# Altium integrated library TI Data Converters Digital to Analog Converter.IntLib: 1533 symbols (part 31 of 99)
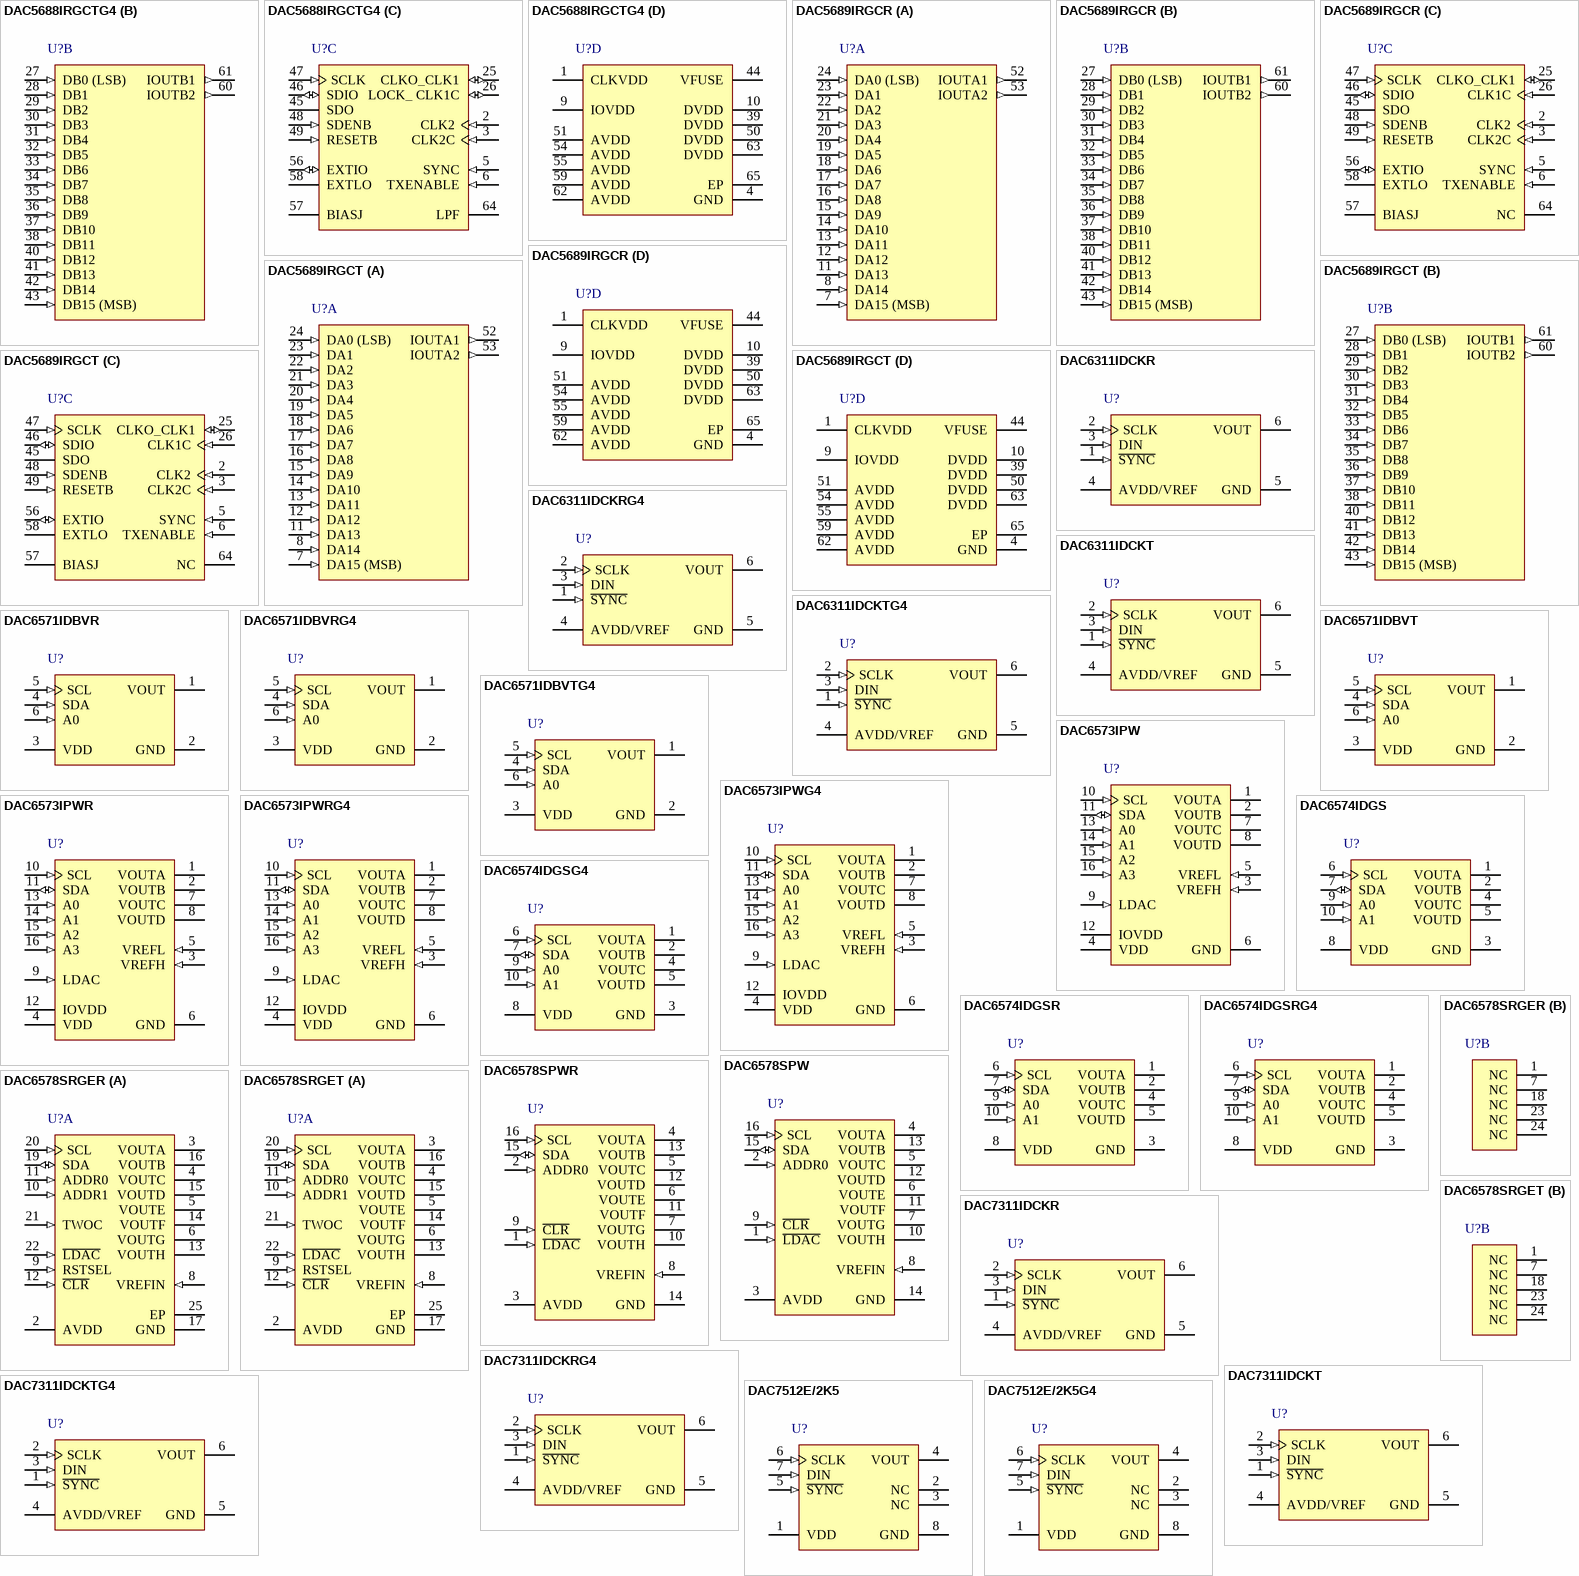
[diagram p103: symbols DAC5688IRGCTG4 to DAC7512E/2K5G4]

## DAC6578SRGER
designator U?
10-Bit, Octal Channel, Ultra-Low Glitch, Voltage Output, 2-Wire Interface DAC, -40 to 125 degC, 24-pin QFN (RGE24), Green (RoHS & no Sb/Br); Manufacturer: Texas Instruments; PartNumber: DAC6578SRGER; DAC Channels: 8; DNL(Max)(+/-LSB): 0.5; Interface: Serial I2C; Power Consumption(Typ)(mW): 3.67; Resolution(Bits): 10; Settling Time(us): 7; SubFamily: Precision DAC (=<10MSPS); DatasheetVersion: SBAS496A; PackageVersion: 4204104/G, 07/2011; PackageReference: RGE24-2700X2700TP; PackageDescription: 24-Pin Plastic Flat Pack, Body 4 x 4 mm, Pitch 0.5 mm; Supplier 1: Digi-Key; Supplier Part Number 1: DAC6578SRGER-ND; Supplier 2: Mouser; Supplier Part Number 2: 595-DAC6578SRGER; Eco-Plan: Green (RoHS & no Sb/Br); INL(Max)(+/-LSB): 0.5; Mounting Technology: Surface Mount; Code_JEDEC: MO-220; ComponentLink1Description: Manufacturer URL; ComponentLink1URL: http://www.ti.com/; ComponentLink2Description: Datasheet; ComponentLink2URL: http://www.ti.com/general/docs/lit/getliterature.tsp?genericPartNumber=DAC6578&fileType=pdf; ComponentLink3Description: Package Specification; ComponentLink3URL: http://www.ti.com/litv/pdf/mpqf124f
footprint TI-RGE24-2700X2700TP_V (QFN, 24-Leads, Body 4x4mm, Pitch 0.5mm, Thermal Pad 2.7x2.7mm)
part A pins: 2 AVDD (power) "Power-supply input, 2.7V to 5.5V", 3 VOUTA (hiz) "Analog output voltage from DAC A", 4 VOUTC (hiz) "Analog output voltage from DAC C", 5 VOUTE (hiz) "Analog output voltage from DAC E", 6 VOUTG (hiz) "Analog output voltage from DAC G", 8 VREFIN (in) "Positive reference input", 9 RSTSEL (in) "Reset select pin. RSTSEL high resets device to mid-scale; RSTSEL low resets device to zero-scale.", 10 ADDR1 (in) "3-state address input", 11 ADDR0 (in) "3-state address input", 12 ~{CLR} (in) "Asynchronous clear input", 13 VOUTH (hiz) "Analog output voltage from DAC H", 14 VOUTF (hiz) "Analog output voltage from DAC F", 15 VOUTD (hiz) "Analog output voltage from DAC D", 16 VOUTB (hiz) "Analog output voltage from DAC B", 17 GND (power) "Ground reference point for all circuitry on the device", 19 SDA (io) "Serial data input. Data are clocked into or out of the input register. This pin is a bidirectional, open-drain data line that should be connected to the supply voltage with an external pull-up resistor.", 20 SCL (in) "Serial clock input. Data can be transferred at rates up to 3.4MHz. Schmitt-trigger logic input.", 21 TWOC (in) "Twos complement select. If the TWOC pin is pulled high, the DAC registers use twos complement format; if TWOC is pulled low, the DAC registers use straight binary format.", 22 ~{LDAC} (in) "Load DACs", 25 EP (power) "It is recommended to connect the thermal pad to GND for better thermal dissipation."
part B pins: 1 NC "Not internally connected", 7 NC "Not internally connected", 18 NC "Not internally connected", 23 NC "Not internally connected", 24 NC "Not internally connected"

## DAC6578SRGET
designator U?
10-Bit, Octal Channel, Ultra-Low Glitch, Voltage Output, 2-Wire Interface DAC, -40 to 125 degC, 24-pin QFN (RGE24), Green (RoHS & no Sb/Br); Manufacturer: Texas Instruments; PartNumber: DAC6578SRGET; DAC Channels: 8; DNL(Max)(+/-LSB): 0.5; Interface: Serial I2C; Power Consumption(Typ)(mW): 3.67; Resolution(Bits): 10; Settling Time(us): 7; SubFamily: Precision DAC (=<10MSPS); DatasheetVersion: SBAS496A; PackageVersion: 4204104/G, 07/2011; PackageReference: RGE24-2700X2700TP; PackageDescription: 24-Pin Plastic Flat Pack, Body 4 x 4 mm, Pitch 0.5 mm; Supplier 1: Digi-Key; Supplier Part Number 1: 296-27739-2-ND; Supplier 2: Digi-Key; Supplier Part Number 2: 296-27739-1-ND; Supplier 3: Digi-Key; Supplier Part Number 3: 296-27739-6-ND; Supplier 4: Farnell; Supplier Part Number 4: 1862570; Supplier 5: Newark; Supplier Part Number 5: 91R2084; Supplier 6: Mouser; Supplier Part Number 6: 595-DAC6578SRGET; Eco-Plan: Green (RoHS & no Sb/Br); INL(Max)(+/-LSB): 0.5; Mounting Technology: Surface Mount; Code_JEDEC: MO-220; ComponentLink1Description: Manufacturer URL; ComponentLink1URL: http://www.ti.com/; ComponentLink2Description: Datasheet; ComponentLink2URL: http://www.ti.com/general/docs/lit/getliterature.tsp?genericPartNumber=DAC6578&fileType=pdf; ComponentLink3Description: Package Specification; ComponentLink3URL: http://www.ti.com/litv/pdf/mpqf124f
footprint TI-RGE24-2700X2700TP_V (QFN, 24-Leads, Body 4x4mm, Pitch 0.5mm, Thermal Pad 2.7x2.7mm)
part A pins: 2 AVDD (power) "Power-supply input, 2.7V to 5.5V", 3 VOUTA (hiz) "Analog output voltage from DAC A", 4 VOUTC (hiz) "Analog output voltage from DAC C", 5 VOUTE (hiz) "Analog output voltage from DAC E", 6 VOUTG (hiz) "Analog output voltage from DAC G", 8 VREFIN (in) "Positive reference input", 9 RSTSEL (in) "Reset select pin. RSTSEL high resets device to mid-scale; RSTSEL low resets device to zero-scale.", 10 ADDR1 (in) "3-state address input", 11 ADDR0 (in) "3-state address input", 12 ~{CLR} (in) "Asynchronous clear input", 13 VOUTH (hiz) "Analog output voltage from DAC H", 14 VOUTF (hiz) "Analog output voltage from DAC F", 15 VOUTD (hiz) "Analog output voltage from DAC D", 16 VOUTB (hiz) "Analog output voltage from DAC B", 17 GND (power) "Ground reference point for all circuitry on the device", 19 SDA (io) "Serial data input. Data are clocked into or out of the input register. This pin is a bidirectional, open-drain data line that should be connected to the supply voltage with an external pull-up resistor.", 20 SCL (in) "Serial clock input. Data can be transferred at rates up to 3.4MHz. Schmitt-trigger logic input.", 21 TWOC (in) "Twos complement select. If the TWOC pin is pulled high, the DAC registers use twos complement format; if TWOC is pulled low, the DAC registers use straight binary format.", 22 ~{LDAC} (in) "Load DACs", 25 EP (power) "It is recommended to connect the thermal pad to GND for better thermal dissipation."
part B pins: 1 NC "Not internally connected", 7 NC "Not internally connected", 18 NC "Not internally connected", 23 NC "Not internally connected", 24 NC "Not internally connected"

## DAC7311IDCKR
designator U?
12-Bit, Single Channel, 80 uA, 1.8 to 5.5 V DAC in SC70 Package, -40 to 125 degC, 6-pin SOT23 (DCK6), Green (RoHS & no Sb/Br); Manufacturer: Texas Instruments; PartNumber: DAC7311IDCKR; DAC Channels: 1; Interface: Serial SPI; Power Consumption(Typ)(mW): 0.14; Resolution(Bits): 12; Settling Time(us): 6; SFDR(dB): 65; SNR(dB): 81; SubFamily: Precision DAC (=<10MSPS); DatasheetVersion: SBAS442B; PackageVersion: 4093553-4/G, 01/2007; PackageReference: DCK6; PackageDescription: 6-Pin Plastic Small Outline, Body 2 x 1.25 mm, Pitch 0.65 mm; Supplier 1: Digi-Key; Supplier Part Number 1: 296-23717-2-ND; Supplier 2: Digi-Key; Supplier Part Number 2: 296-23717-1-ND; Supplier 3: Digi-Key; Supplier Part Number 3: 296-23717-6-ND; Supplier 4: Newark; Supplier Part Number 4: 08P4365; Supplier 5: Mouser; Supplier Part Number 5: 595-DAC7311IDCKR; DNL(Max)(+/-LSB): 1; Eco-Plan: Green (RoHS & no Sb/Br); INL(Max)(+/-LSB): 1; Mounting Technology: Surface Mount; Code_JEDEC: MO-203; ComponentLink1Description: Manufacturer URL; ComponentLink1URL: http://www.ti.com/; ComponentLink2Description: Datasheet; ComponentLink2URL: http://www.ti.com/general/docs/lit/getliterature.tsp?genericPartNumber=DAC7311&fileType=pdf; ComponentLink3Description: Package Specification; ComponentLink3URL: http://www.ti.com/litv/pdf/mpds114c
footprint TI-DCK6_V (SOT23, 6-Leads, Body 2x1.25mm, Pitch 0.65mm)
pins: 1 ~{SYNC} (in) "Level-triggered control input (active low). This is the frame sychronization signal for the input data. When S\Y\N\C\ goes low, it enables the input shift register and data are transferred in on the falling edges of the (See Datasheet)", 2 SCLK (in) "Serial Clock Input. Data can be transferred at rates up to 50MHz.", 3 DIN (in) "Serial Data Input. Data is clocked into the 24-bit (DAC8411) or 16-bit (DAC8311) input shift register on the falling edge of the serial clock input.", 4 AVDD/VREF (power) "Power Supply Input, +2.0V to 5.5V.", 5 GND (power) "Ground reference point for all circuitry on the part.", 6 VOUT (hiz) "Analog output voltage from DAC. The output amplifier has rail-to-rail operation."

## DAC7311IDCKRG4
designator U?
12-Bit, Single Channel, 80 uA, 1.8 to 5.5 V DAC in SC70 Package, -40 to 125 degC, 6-pin SOT23 (DCK6), Green (RoHS & no Sb/Br); Manufacturer: Texas Instruments; PartNumber: DAC7311IDCKRG4; DAC Channels: 1; Interface: Serial SPI; Power Consumption(Typ)(mW): 0.14; Resolution(Bits): 12; Settling Time(us): 6; SFDR(dB): 65; SNR(dB): 81; SubFamily: Precision DAC (=<10MSPS); DatasheetVersion: SBAS442B; PackageVersion: 4093553-4/G, 01/2007; PackageReference: DCK6; PackageDescription: 6-Pin Plastic Small Outline, Body 2 x 1.25 mm, Pitch 0.65 mm; Supplier 1: Digi-Key; Supplier Part Number 1: DAC7311IDCKRG4-ND; Supplier 2: Mouser; Supplier Part Number 2: 595-DAC7311IDCKRG4; DNL(Max)(+/-LSB): 1; Eco-Plan: Green (RoHS & no Sb/Br); INL(Max)(+/-LSB): 1; Mounting Technology: Surface Mount; Code_JEDEC: MO-203; ComponentLink1Description: Manufacturer URL; ComponentLink1URL: http://www.ti.com/; ComponentLink2Description: Datasheet; ComponentLink2URL: http://www.ti.com/general/docs/lit/getliterature.tsp?genericPartNumber=DAC7311&fileType=pdf; ComponentLink3Description: Package Specification; ComponentLink3URL: http://www.ti.com/litv/pdf/mpds114c
footprint TI-DCK6_V (SOT23, 6-Leads, Body 2x1.25mm, Pitch 0.65mm)
pins: 1 ~{SYNC} (in) "Level-triggered control input (active low). This is the frame sychronization signal for the input data. When S\Y\N\C\ goes low, it enables the input shift register and data are transferred in on the falling edges of the (See Datasheet)", 2 SCLK (in) "Serial Clock Input. Data can be transferred at rates up to 50MHz.", 3 DIN (in) "Serial Data Input. Data is clocked into the 24-bit (DAC8411) or 16-bit (DAC8311) input shift register on the falling edge of the serial clock input.", 4 AVDD/VREF (power) "Power Supply Input, +2.0V to 5.5V.", 5 GND (power) "Ground reference point for all circuitry on the part.", 6 VOUT (hiz) "Analog output voltage from DAC. The output amplifier has rail-to-rail operation."

## DAC7311IDCKT
designator U?
12-Bit, Single Channel, 80 uA, 1.8 to 5.5 V DAC in SC70 Package, -40 to 125 degC, 6-pin SOT23 (DCK6), Green (RoHS & no Sb/Br); Manufacturer: Texas Instruments; PartNumber: DAC7311IDCKT; DAC Channels: 1; Interface: Serial SPI; Power Consumption(Typ)(mW): 0.14; Resolution(Bits): 12; Settling Time(us): 6; SFDR(dB): 65; SNR(dB): 81; SubFamily: Precision DAC (=<10MSPS); DatasheetVersion: SBAS442B; PackageVersion: 4093553-4/G, 01/2007; PackageReference: DCK6; PackageDescription: 6-Pin Plastic Small Outline, Body 2 x 1.25 mm, Pitch 0.65 mm; Supplier 1: Digi-Key; Supplier Part Number 1: 296-26043-2-ND; Supplier 2: Digi-Key; Supplier Part Number 2: 296-26043-1-ND; Supplier 3: Digi-Key; Supplier Part Number 3: 296-26043-6-ND; Supplier 4: Newark; Supplier Part Number 4: 87W8957; Supplier 5: Newark; Supplier Part Number 5: 12P7426; Supplier 6: Mouser; Supplier Part Number 6: 595-DAC7311IDCKT; DNL(Max)(+/-LSB): 1; Eco-Plan: Green (RoHS & no Sb/Br); INL(Max)(+/-LSB): 1; Mounting Technology: Surface Mount; Code_JEDEC: MO-203; ComponentLink1Description: Manufacturer URL; ComponentLink1URL: http://www.ti.com/; ComponentLink2Description: Datasheet; ComponentLink2URL: http://www.ti.com/general/docs/lit/getliterature.tsp?genericPartNumber=DAC7311&fileType=pdf; ComponentLink3Description: Package Specification; ComponentLink3URL: http://www.ti.com/litv/pdf/mpds114c
footprint TI-DCK6_V (SOT23, 6-Leads, Body 2x1.25mm, Pitch 0.65mm)
pins: 1 ~{SYNC} (in) "Level-triggered control input (active low). This is the frame sychronization signal for the input data. When S\Y\N\C\ goes low, it enables the input shift register and data are transferred in on the falling edges of the (See Datasheet)", 2 SCLK (in) "Serial Clock Input. Data can be transferred at rates up to 50MHz.", 3 DIN (in) "Serial Data Input. Data is clocked into the 24-bit (DAC8411) or 16-bit (DAC8311) input shift register on the falling edge of the serial clock input.", 4 AVDD/VREF (power) "Power Supply Input, +2.0V to 5.5V.", 5 GND (power) "Ground reference point for all circuitry on the part.", 6 VOUT (hiz) "Analog output voltage from DAC. The output amplifier has rail-to-rail operation."

## DAC7311IDCKTG4
designator U?
12-Bit, Single Channel, 80 uA, 1.8 to 5.5 V DAC in SC70 Package, -40 to 125 degC, 6-pin SOT23 (DCK6), Green (RoHS & no Sb/Br); Manufacturer: Texas Instruments; PartNumber: DAC7311IDCKTG4; DAC Channels: 1; Interface: Serial SPI; Power Consumption(Typ)(mW): 0.14; Resolution(Bits): 12; Settling Time(us): 6; SFDR(dB): 65; SNR(dB): 81; SubFamily: Precision DAC (=<10MSPS); DatasheetVersion: SBAS442B; PackageVersion: 4093553-4/G, 01/2007; PackageReference: DCK6; PackageDescription: 6-Pin Plastic Small Outline, Body 2 x 1.25 mm, Pitch 0.65 mm; Supplier 1: Digi-Key; Supplier Part Number 1: DAC7311IDCKTG4-ND; Supplier 2: Mouser; Supplier Part Number 2: 595-DAC7311IDCKTG4; DNL(Max)(+/-LSB): 1; Eco-Plan: Green (RoHS & no Sb/Br); INL(Max)(+/-LSB): 1; Mounting Technology: Surface Mount; Code_JEDEC: MO-203; ComponentLink1Description: Manufacturer URL; ComponentLink1URL: http://www.ti.com/; ComponentLink2Description: Datasheet; ComponentLink2URL: http://www.ti.com/general/docs/lit/getliterature.tsp?genericPartNumber=DAC7311&fileType=pdf; ComponentLink3Description: Package Specification; ComponentLink3URL: http://www.ti.com/litv/pdf/mpds114c
footprint TI-DCK6_V (SOT23, 6-Leads, Body 2x1.25mm, Pitch 0.65mm)
pins: 1 ~{SYNC} (in) "Level-triggered control input (active low). This is the frame sychronization signal for the input data. When S\Y\N\C\ goes low, it enables the input shift register and data are transferred in on the falling edges of the (See Datasheet)", 2 SCLK (in) "Serial Clock Input. Data can be transferred at rates up to 50MHz.", 3 DIN (in) "Serial Data Input. Data is clocked into the 24-bit (DAC8411) or 16-bit (DAC8311) input shift register on the falling edge of the serial clock input.", 4 AVDD/VREF (power) "Power Supply Input, +2.0V to 5.5V.", 5 GND (power) "Ground reference point for all circuitry on the part.", 6 VOUT (hiz) "Analog output voltage from DAC. The output amplifier has rail-to-rail operation."

## DAC7512E/2K5
designator U?
Low-Power Rail-to-Rail Output 12-Bit Serial Input DAC, -40 to 105 degC, 8-pin SOP (DGK8), Green (RoHS & no Sb/Br); Manufacturer: Texas Instruments; PartNumber: DAC7512E/2K5; DAC Channels: 1; Interface: Serial SPI; Resolution(Bits): 12; Settling Time(us): 10; SubFamily: Precision DAC (=<10MSPS); DatasheetVersion: SBAS156B; PackageVersion: 4073329/E, 05/2006; PackageReference: DGK8; PackageDescription: 8-Pin Thin Small Outline, Body 3 x 3 mm, Pitch 0.65 mm; Supplier 1: Digi-Key; Supplier Part Number 1: DAC7512E/2K5-ND; Supplier 2: Mouser; Supplier Part Number 2: 595-DAC7512E/2K5; DNL(Max)(+/-LSB): 1; Eco-Plan: Green (RoHS & no Sb/Br); Mounting Technology: Surface Mount; Code_JEDEC: MO-187; ComponentLink1Description: Manufacturer URL; ComponentLink1URL: http://www.ti.com/; ComponentLink2Description: Datasheet; ComponentLink2URL: http://www.ti.com/general/docs/lit/getliterature.tsp?genericPartNumber=DAC7512&fileType=pdf; ComponentLink3Description: Package Specification; ComponentLink3URL: http://www.ti.com/litv/pdf/mpds028d
footprint TI-DGK8_N (SOP, 8-Leads, Body 3x3mm, Pitch 0.65mm, IPC Medium Density)
footprint TI-DGK8_L (SOP, 8-Leads, Body 3x3mm, Pitch 0.65mm, IPC High Density)
footprint TI-DGK8_M (SOP, 8-Leads, Body 3x3mm, Pitch 0.65mm, IPC Low Density)
pins: 1 VDD (power) "Power Supply Input, +2.7V to 5.5V.", 2 NC, 3 NC, 4 VOUT (hiz) "Analog output voltage from DAC. The output amplifier has rail-to-rail operation.", 5 ~{SYNC} (in) "Level triggered control input (active LOW). This is the frame sychronization signal for the input data. When S\Y\N\C\ goes LOW, it enables the input shift register and data is transferred in on the falling edges of the (See Datasheet)", 6 SCLK (in) "Serial Clock Input. Data can be transferred at rates up to 30MHz.", 7 DIN (in) "Serial Data Input. Data is clocked into the 16-bit input shift register on the falling edge of the serial clock input", 8 GND (power) "Ground reference point for all circuitry on the part"

## DAC7512E/2K5G4
designator U?
Low-Power Rail-to-Rail Output 12-Bit Serial Input DAC, -40 to 105 degC, 8-pin SOP (DGK8), Green (RoHS & no Sb/Br); Manufacturer: Texas Instruments; PartNumber: DAC7512E/2K5G4; DAC Channels: 1; Interface: Serial SPI; Resolution(Bits): 12; Settling Time(us): 10; SubFamily: Precision DAC (=<10MSPS); DatasheetVersion: SBAS156B; PackageVersion: 4073329/E, 05/2006; PackageReference: DGK8; PackageDescription: 8-Pin Thin Small Outline, Body 3 x 3 mm, Pitch 0.65 mm; Supplier 1: Digi-Key; Supplier Part Number 1: DAC7512E/2K5G4-ND; Supplier 2: Mouser; Supplier Part Number 2: 595-DAC7512E/2K5G4; DNL(Max)(+/-LSB): 1; Eco-Plan: Green (RoHS & no Sb/Br); Mounting Technology: Surface Mount; Code_JEDEC: MO-187; ComponentLink1Description: Manufacturer URL; ComponentLink1URL: http://www.ti.com/; ComponentLink2Description: Datasheet; ComponentLink2URL: http://www.ti.com/general/docs/lit/getliterature.tsp?genericPartNumber=DAC7512&fileType=pdf; ComponentLink3Description: Package Specification; ComponentLink3URL: http://www.ti.com/litv/pdf/mpds028d
footprint TI-DGK8_N (SOP, 8-Leads, Body 3x3mm, Pitch 0.65mm, IPC Medium Density)
footprint TI-DGK8_L (SOP, 8-Leads, Body 3x3mm, Pitch 0.65mm, IPC High Density)
footprint TI-DGK8_M (SOP, 8-Leads, Body 3x3mm, Pitch 0.65mm, IPC Low Density)
pins: 1 VDD (power) "Power Supply Input, +2.7V to 5.5V.", 2 NC, 3 NC, 4 VOUT (hiz) "Analog output voltage from DAC. The output amplifier has rail-to-rail operation.", 5 ~{SYNC} (in) "Level triggered control input (active LOW). This is the frame sychronization signal for the input data. When S\Y\N\C\ goes LOW, it enables the input shift register and data is transferred in on the falling edges of the (See Datasheet)", 6 SCLK (in) "Serial Clock Input. Data can be transferred at rates up to 30MHz.", 7 DIN (in) "Serial Data Input. Data is clocked into the 16-bit input shift register on the falling edge of the serial clock input", 8 GND (power) "Ground reference point for all circuitry on the part"

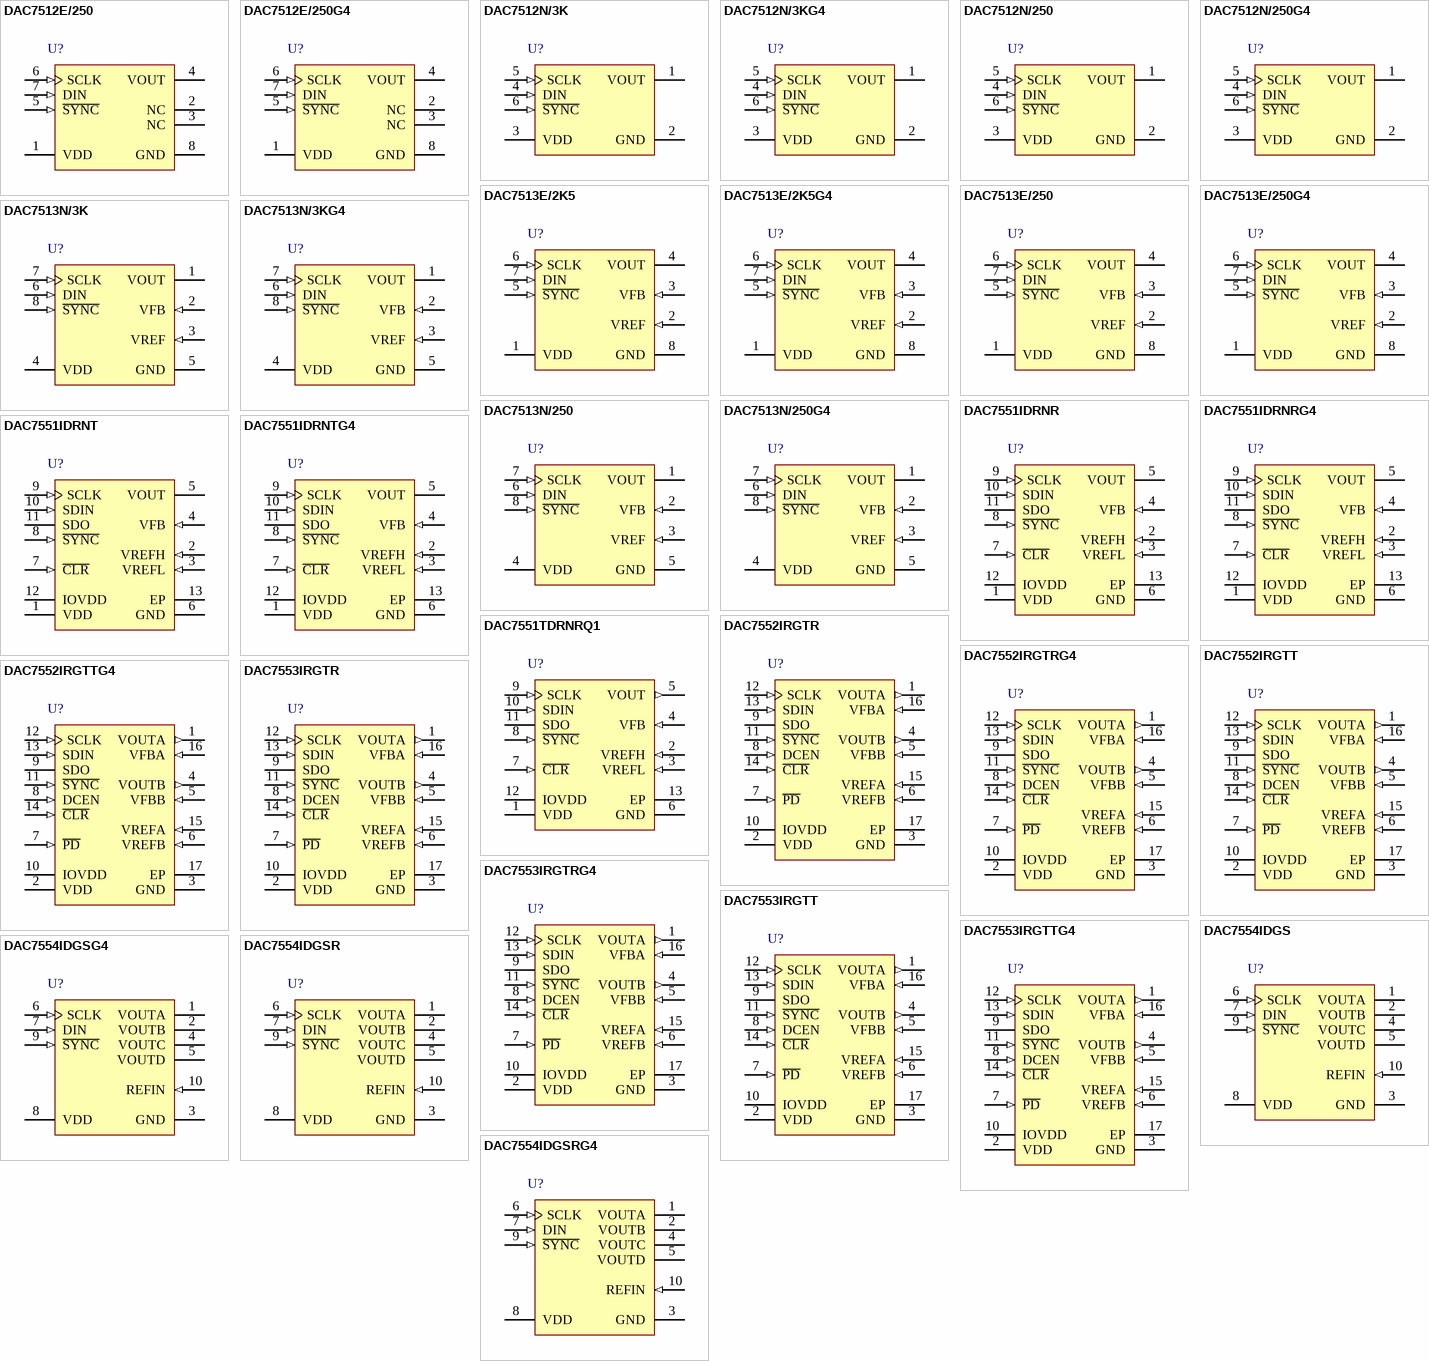
[diagram p23: symbols DAC7512E/250 to DAC7554IDGSRG4]

## DAC7512E/250
designator U?
Low-Power Rail-to-Rail Output 12-Bit Serial Input DAC, -40 to 105 degC, 8-pin SOP (DGK8), Green (RoHS & no Sb/Br); Manufacturer: Texas Instruments; PartNumber: DAC7512E/250; DAC Channels: 1; Interface: Serial SPI; Resolution(Bits): 12; Settling Time(us): 10; SubFamily: Precision DAC (=<10MSPS); DatasheetVersion: SBAS156B; PackageVersion: 4073329/E, 05/2006; PackageReference: DGK8; PackageDescription: 8-Pin Thin Small Outline, Body 3 x 3 mm, Pitch 0.65 mm; Supplier 1: Digi-Key; Supplier Part Number 1: DAC7512ETR-ND; Supplier 2: Digi-Key; Supplier Part Number 2: DAC7512ECT-ND; Supplier 3: Digi-Key; Supplier Part Number 3: DAC7512EDKR-ND; Supplier 4: Newark; Supplier Part Number 4: 74C9151; Supplier 5: Mouser; Supplier Part Number 5: 595-DAC7512E/250; DNL(Max)(+/-LSB): 1; Eco-Plan: Green (RoHS & no Sb/Br); Mounting Technology: Surface Mount; Code_JEDEC: MO-187; ComponentLink1Description: Manufacturer URL; ComponentLink1URL: http://www.ti.com/; ComponentLink2Description: Datasheet; ComponentLink2URL: http://www.ti.com/general/docs/lit/getliterature.tsp?genericPartNumber=DAC7512&fileType=pdf; ComponentLink3Description: Package Specification; ComponentLink3URL: http://www.ti.com/litv/pdf/mpds028d
footprint TI-DGK8_N (SOP, 8-Leads, Body 3x3mm, Pitch 0.65mm, IPC Medium Density)
footprint TI-DGK8_L (SOP, 8-Leads, Body 3x3mm, Pitch 0.65mm, IPC High Density)
footprint TI-DGK8_M (SOP, 8-Leads, Body 3x3mm, Pitch 0.65mm, IPC Low Density)
pins: 1 VDD (power) "Power Supply Input, +2.7V to 5.5V.", 2 NC, 3 NC, 4 VOUT (hiz) "Analog output voltage from DAC. The output amplifier has rail-to-rail operation.", 5 ~{SYNC} (in) "Level triggered control input (active LOW). This is the frame sychronization signal for the input data. When S\Y\N\C\ goes LOW, it enables the input shift register and data is transferred in on the falling edges of the (See Datasheet)", 6 SCLK (in) "Serial Clock Input. Data can be transferred at rates up to 30MHz.", 7 DIN (in) "Serial Data Input. Data is clocked into the 16-bit input shift register on the falling edge of the serial clock input", 8 GND (power) "Ground reference point for all circuitry on the part"

## DAC7512E/250G4
designator U?
Low-Power Rail-to-Rail Output 12-Bit Serial Input DAC, -40 to 105 degC, 8-pin SOP (DGK8), Green (RoHS & no Sb/Br); Manufacturer: Texas Instruments; PartNumber: DAC7512E/250G4; DAC Channels: 1; Interface: Serial SPI; Resolution(Bits): 12; Settling Time(us): 10; SubFamily: Precision DAC (=<10MSPS); DatasheetVersion: SBAS156B; PackageVersion: 4073329/E, 05/2006; PackageReference: DGK8; PackageDescription: 8-Pin Thin Small Outline, Body 3 x 3 mm, Pitch 0.65 mm; Supplier 1: Digi-Key; Supplier Part Number 1: DAC7512E/250G4-ND; Supplier 2: Farnell; Supplier Part Number 2: 1206852; Supplier 3: Newark; Supplier Part Number 3: 96K8416; Supplier 4: Newark; Supplier Part Number 4: 73K7713; Supplier 5: Mouser; Supplier Part Number 5: 595-DAC7512E/250G4; DNL(Max)(+/-LSB): 1; Eco-Plan: Green (RoHS & no Sb/Br); Mounting Technology: Surface Mount; Code_JEDEC: MO-187; ComponentLink1Description: Manufacturer URL; ComponentLink1URL: http://www.ti.com/; ComponentLink2Description: Datasheet; ComponentLink2URL: http://www.ti.com/general/docs/lit/getliterature.tsp?genericPartNumber=DAC7512&fileType=pdf; ComponentLink3Description: Package Specification; ComponentLink3URL: http://www.ti.com/litv/pdf/mpds028d
footprint TI-DGK8_N (SOP, 8-Leads, Body 3x3mm, Pitch 0.65mm, IPC Medium Density)
footprint TI-DGK8_L (SOP, 8-Leads, Body 3x3mm, Pitch 0.65mm, IPC High Density)
footprint TI-DGK8_M (SOP, 8-Leads, Body 3x3mm, Pitch 0.65mm, IPC Low Density)
pins: 1 VDD (power) "Power Supply Input, +2.7V to 5.5V.", 2 NC, 3 NC, 4 VOUT (hiz) "Analog output voltage from DAC. The output amplifier has rail-to-rail operation.", 5 ~{SYNC} (in) "Level triggered control input (active LOW). This is the frame sychronization signal for the input data. When S\Y\N\C\ goes LOW, it enables the input shift register and data is transferred in on the falling edges of the (See Datasheet)", 6 SCLK (in) "Serial Clock Input. Data can be transferred at rates up to 30MHz.", 7 DIN (in) "Serial Data Input. Data is clocked into the 16-bit input shift register on the falling edge of the serial clock input", 8 GND (power) "Ground reference point for all circuitry on the part"

## DAC7512N/3K
designator U?
Low-Power Rail-to-Rail Output 12-Bit Serial Input DAC, -40 to 105 degC, 6-pin SOT23 (DBV6), Green (RoHS & no Sb/Br); Manufacturer: Texas Instruments; PartNumber: DAC7512N/3K; DAC Channels: 1; Interface: Serial SPI; Resolution(Bits): 12; Settling Time(us): 10; SubFamily: Precision DAC (=<10MSPS); DatasheetVersion: SBAS156B; PackageVersion: 4073253-5/K, 03/2006; PackageReference: DBV6; PackageDescription: 6-Pin Plastic Small Outline, Body 1.6 x 2.9 mm, Pitch 0.95 mm; Supplier 1: Digi-Key; Supplier Part Number 1: 296-26044-2-ND; Supplier 2: Digi-Key; Supplier Part Number 2: 296-26044-1-ND; Supplier 3: Digi-Key; Supplier Part Number 3: 296-26044-6-ND; Supplier 4: Newark; Supplier Part Number 4: 74C9153; Supplier 5: Mouser; Supplier Part Number 5: 595-DAC7512N/3K; DNL(Max)(+/-LSB): 1; Eco-Plan: Green (RoHS & no Sb/Br); Mounting Technology: Surface Mount; Code_JEDEC: MO-178; ComponentLink1Description: Manufacturer URL; ComponentLink1URL: http://www.ti.com/; ComponentLink2Description: Datasheet; ComponentLink2URL: http://www.ti.com/general/docs/lit/getliterature.tsp?genericPartNumber=DAC7512&fileType=pdf; ComponentLink3Description: Package Specification; ComponentLink3URL: http://www.ti.com/litv/pdf/mpds026h
footprint TI-DBV6_N (SOT23, 6-Leads, Body 2.9x1.6mm, Pitch 0.95mm, IPC Medium Density)
footprint TI-DBV6_L (SOT23, 6-Leads, Body 2.9x1.6mm, Pitch 0.95mm, IPC High Density)
footprint TI-DBV6_M (SOT23, 6-Leads, Body 2.9x1.6mm, Pitch 0.95mm, IPC Low Density)
pins: 1 VOUT (hiz) "Analog output voltage from DAC. The output amplifier has rail-to-rail operation.", 2 GND (power) "Ground reference point for all circuitry on the part", 3 VDD (power) "Power Supply Input, +2.7V to 5.5V.", 4 DIN (in) "Serial Data Input. Data is clocked into the 16-bit input shift register on the falling edge of the serial clock input", 5 SCLK (in) "Serial Clock Input. Data can be transferred at rates up to 30MHz.", 6 ~{SYNC} (in) "Level triggered control input (active LOW). This is the frame sychronization signal for the input data. When S\Y\N\C\ goes LOW, it enables the input shift register and data is transferred in on the falling edges of the (See Datasheet)"

## DAC7512N/3KG4
designator U?
Low-Power Rail-to-Rail Output 12-Bit Serial Input DAC, -40 to 105 degC, 6-pin SOT23 (DBV6), Green (RoHS & no Sb/Br); Manufacturer: Texas Instruments; PartNumber: DAC7512N/3KG4; DAC Channels: 1; Interface: Serial SPI; Resolution(Bits): 12; Settling Time(us): 10; SubFamily: Precision DAC (=<10MSPS); DatasheetVersion: SBAS156B; PackageVersion: 4073253-5/K, 03/2006; PackageReference: DBV6; PackageDescription: 6-Pin Plastic Small Outline, Body 1.6 x 2.9 mm, Pitch 0.95 mm; Supplier 1: Digi-Key; Supplier Part Number 1: DAC7512N/3KG4-ND; Supplier 2: Newark; Supplier Part Number 2: 03K9067; Supplier 3: Mouser; Supplier Part Number 3: 595-DAC7512N/3KG4; DNL(Max)(+/-LSB): 1; Eco-Plan: Green (RoHS & no Sb/Br); Mounting Technology: Surface Mount; Code_JEDEC: MO-178; ComponentLink1Description: Manufacturer URL; ComponentLink1URL: http://www.ti.com/; ComponentLink2Description: Datasheet; ComponentLink2URL: http://www.ti.com/general/docs/lit/getliterature.tsp?genericPartNumber=DAC7512&fileType=pdf; ComponentLink3Description: Package Specification; ComponentLink3URL: http://www.ti.com/litv/pdf/mpds026h
footprint TI-DBV6_N (SOT23, 6-Leads, Body 2.9x1.6mm, Pitch 0.95mm, IPC Medium Density)
footprint TI-DBV6_L (SOT23, 6-Leads, Body 2.9x1.6mm, Pitch 0.95mm, IPC High Density)
footprint TI-DBV6_M (SOT23, 6-Leads, Body 2.9x1.6mm, Pitch 0.95mm, IPC Low Density)
pins: 1 VOUT (hiz) "Analog output voltage from DAC. The output amplifier has rail-to-rail operation.", 2 GND (power) "Ground reference point for all circuitry on the part", 3 VDD (power) "Power Supply Input, +2.7V to 5.5V.", 4 DIN (in) "Serial Data Input. Data is clocked into the 16-bit input shift register on the falling edge of the serial clock input", 5 SCLK (in) "Serial Clock Input. Data can be transferred at rates up to 30MHz.", 6 ~{SYNC} (in) "Level triggered control input (active LOW). This is the frame sychronization signal for the input data. When S\Y\N\C\ goes LOW, it enables the input shift register and data is transferred in on the falling edges of the (See Datasheet)"

## DAC7512N/250
designator U?
Low-Power Rail-to-Rail Output 12-Bit Serial Input DAC, -40 to 105 degC, 6-pin SOT23 (DBV6), Green (RoHS & no Sb/Br); Manufacturer: Texas Instruments; PartNumber: DAC7512N/250; DAC Channels: 1; Interface: Serial SPI; Resolution(Bits): 12; Settling Time(us): 10; SubFamily: Precision DAC (=<10MSPS); DatasheetVersion: SBAS156B; PackageVersion: 4073253-5/K, 03/2006; PackageReference: DBV6; PackageDescription: 6-Pin Plastic Small Outline, Body 1.6 x 2.9 mm, Pitch 0.95 mm; Supplier 1: Digi-Key; Supplier Part Number 1: DAC7512NTR-ND; Supplier 2: Digi-Key; Supplier Part Number 2: DAC7512NCT-ND; Supplier 3: Digi-Key; Supplier Part Number 3: DAC7512NDKR-ND; Supplier 4: Farnell; Supplier Part Number 4: 9547436; Supplier 5: Newark; Supplier Part Number 5: 74C9152; Supplier 6: Mouser; Supplier Part Number 6: 595-DAC7512N/250; DNL(Max)(+/-LSB): 1; Eco-Plan: Green (RoHS & no Sb/Br); Mounting Technology: Surface Mount; Code_JEDEC: MO-178; ComponentLink1Description: Manufacturer URL; ComponentLink1URL: http://www.ti.com/; ComponentLink2Description: Datasheet; ComponentLink2URL: http://www.ti.com/general/docs/lit/getliterature.tsp?genericPartNumber=DAC7512&fileType=pdf; ComponentLink3Description: Package Specification; ComponentLink3URL: http://www.ti.com/litv/pdf/mpds026h
footprint TI-DBV6_N (SOT23, 6-Leads, Body 2.9x1.6mm, Pitch 0.95mm, IPC Medium Density)
footprint TI-DBV6_L (SOT23, 6-Leads, Body 2.9x1.6mm, Pitch 0.95mm, IPC High Density)
footprint TI-DBV6_M (SOT23, 6-Leads, Body 2.9x1.6mm, Pitch 0.95mm, IPC Low Density)
pins: 1 VOUT (hiz) "Analog output voltage from DAC. The output amplifier has rail-to-rail operation.", 2 GND (power) "Ground reference point for all circuitry on the part", 3 VDD (power) "Power Supply Input, +2.7V to 5.5V.", 4 DIN (in) "Serial Data Input. Data is clocked into the 16-bit input shift register on the falling edge of the serial clock input", 5 SCLK (in) "Serial Clock Input. Data can be transferred at rates up to 30MHz.", 6 ~{SYNC} (in) "Level triggered control input (active LOW). This is the frame sychronization signal for the input data. When S\Y\N\C\ goes LOW, it enables the input shift register and data is transferred in on the falling edges of the (See Datasheet)"

## DAC7512N/250G4
designator U?
Low-Power Rail-to-Rail Output 12-Bit Serial Input DAC, -40 to 105 degC, 6-pin SOT23 (DBV6), Green (RoHS & no Sb/Br); Manufacturer: Texas Instruments; PartNumber: DAC7512N/250G4; DAC Channels: 1; Interface: Serial SPI; Resolution(Bits): 12; Settling Time(us): 10; SubFamily: Precision DAC (=<10MSPS); DatasheetVersion: SBAS156B; PackageVersion: 4073253-5/K, 03/2006; PackageReference: DBV6; PackageDescription: 6-Pin Plastic Small Outline, Body 1.6 x 2.9 mm, Pitch 0.95 mm; Supplier 1: Digi-Key; Supplier Part Number 1: DAC7512N/250G4-ND; Supplier 2: Farnell; Supplier Part Number 2: 9324151; Supplier 3: Newark; Supplier Part Number 3: 38K0740; Supplier 4: Newark; Supplier Part Number 4: 24K4539; Supplier 5: Mouser; Supplier Part Number 5: 595-DAC7512N/250G4; DNL(Max)(+/-LSB): 1; Eco-Plan: Green (RoHS & no Sb/Br); Mounting Technology: Surface Mount; Code_JEDEC: MO-178; ComponentLink1Description: Manufacturer URL; ComponentLink1URL: http://www.ti.com/; ComponentLink2Description: Datasheet; ComponentLink2URL: http://www.ti.com/general/docs/lit/getliterature.tsp?genericPartNumber=DAC7512&fileType=pdf; ComponentLink3Description: Package Specification; ComponentLink3URL: http://www.ti.com/litv/pdf/mpds026h
footprint TI-DBV6_N (SOT23, 6-Leads, Body 2.9x1.6mm, Pitch 0.95mm, IPC Medium Density)
footprint TI-DBV6_L (SOT23, 6-Leads, Body 2.9x1.6mm, Pitch 0.95mm, IPC High Density)
footprint TI-DBV6_M (SOT23, 6-Leads, Body 2.9x1.6mm, Pitch 0.95mm, IPC Low Density)
pins: 1 VOUT (hiz) "Analog output voltage from DAC. The output amplifier has rail-to-rail operation.", 2 GND (power) "Ground reference point for all circuitry on the part", 3 VDD (power) "Power Supply Input, +2.7V to 5.5V.", 4 DIN (in) "Serial Data Input. Data is clocked into the 16-bit input shift register on the falling edge of the serial clock input", 5 SCLK (in) "Serial Clock Input. Data can be transferred at rates up to 30MHz.", 6 ~{SYNC} (in) "Level triggered control input (active LOW). This is the frame sychronization signal for the input data. When S\Y\N\C\ goes LOW, it enables the input shift register and data is transferred in on the falling edges of the (See Datasheet)"

## DAC7513E/2K5
designator U?
Low-Power Rail-to-Rail Output 12-Bit Serial Input DAC, -40 to 105 degC, 8-pin SOP (DGK8), Green (RoHS & no Sb/Br); Manufacturer: Texas Instruments; PartNumber: DAC7513E/2K5; DAC Channels: 1; INL(Max)(+/-LSB): 8; Interface: Serial SPI; Resolution(Bits): 12; Settling Time(us): 10; SubFamily: Precision DAC (=<10MSPS); DatasheetVersion: SBAS157A; PackageVersion: 4073329/E, 05/2006; PackageReference: DGK8; PackageDescription: 8-Pin Thin Small Outline, Body 3 x 3 mm, Pitch 0.65 mm; Supplier 1: Digi-Key; Supplier Part Number 1: DAC7513E/2K5-ND; Supplier 2: Newark; Supplier Part Number 2: 74C9154; Supplier 3: Mouser; Supplier Part Number 3: 595-DAC7513E/2K5; DNL(Max)(+/-LSB): 1; Eco-Plan: Green (RoHS & no Sb/Br); Mounting Technology: Surface Mount; Code_JEDEC: MO-187; ComponentLink1Description: Manufacturer URL; ComponentLink1URL: http://www.ti.com/; ComponentLink2Description: Datasheet; ComponentLink2URL: http://www.ti.com/general/docs/lit/getliterature.tsp?genericPartNumber=DAC7513&fileType=pdf; ComponentLink3Description: Package Specification; ComponentLink3URL: http://www.ti.com/litv/pdf/mpds028d
footprint TI-DGK8_N (SOP, 8-Leads, Body 3x3mm, Pitch 0.65mm, IPC Medium Density)
footprint TI-DGK8_L (SOP, 8-Leads, Body 3x3mm, Pitch 0.65mm, IPC High Density)
footprint TI-DGK8_M (SOP, 8-Leads, Body 3x3mm, Pitch 0.65mm, IPC Low Density)
pins: 1 VDD (power) "Power-Supply Input, +2.7V to +5.5V", 2 VREF (in) "Reference Voltage Input", 3 VFB (in) "Feedback connection for the output amplifier", 4 VOUT (hiz) "Analog output voltage from DAC. The output amplifier has rail-to-rail operation.", 5 ~{SYNC} (in) "Level-triggered control input (active LOW). This is the frame synchronization signal for the input data. When S\Y\N\C\ goes LOW, it enables the input shift register and data is transferred in on the falling edges of the (See Datasheet)", 6 SCLK (in) "Serial Clock Input. Data can be transferred at rates up to 30MHz.", 7 DIN (in) "Serial Data Input. Data is clocked into the 24-bit input shift register on the falling edge of the serial clock input.", 8 GND (power) "Ground reference point for all circuitry on the part."

## DAC7513E/2K5G4
designator U?
Low-Power Rail-to-Rail Output 12-Bit Serial Input DAC, -40 to 105 degC, 8-pin SOP (DGK8), Green (RoHS & no Sb/Br); Manufacturer: Texas Instruments; PartNumber: DAC7513E/2K5G4; DAC Channels: 1; INL(Max)(+/-LSB): 8; Interface: Serial SPI; Resolution(Bits): 12; Settling Time(us): 10; SubFamily: Precision DAC (=<10MSPS); DatasheetVersion: SBAS157A; PackageVersion: 4073329/E, 05/2006; PackageReference: DGK8; PackageDescription: 8-Pin Thin Small Outline, Body 3 x 3 mm, Pitch 0.65 mm; Supplier 1: Digi-Key; Supplier Part Number 1: DAC7513E/2K5G4-ND; Supplier 2: Newark; Supplier Part Number 2: 70K1028; Supplier 3: Mouser; Supplier Part Number 3: 595-DAC7513E/2K5G4; DNL(Max)(+/-LSB): 1; Eco-Plan: Green (RoHS & no Sb/Br); Mounting Technology: Surface Mount; Code_JEDEC: MO-187; ComponentLink1Description: Manufacturer URL; ComponentLink1URL: http://www.ti.com/; ComponentLink2Description: Datasheet; ComponentLink2URL: http://www.ti.com/general/docs/lit/getliterature.tsp?genericPartNumber=DAC7513&fileType=pdf; ComponentLink3Description: Package Specification; ComponentLink3URL: http://www.ti.com/litv/pdf/mpds028d
footprint TI-DGK8_N (SOP, 8-Leads, Body 3x3mm, Pitch 0.65mm, IPC Medium Density)
footprint TI-DGK8_L (SOP, 8-Leads, Body 3x3mm, Pitch 0.65mm, IPC High Density)
footprint TI-DGK8_M (SOP, 8-Leads, Body 3x3mm, Pitch 0.65mm, IPC Low Density)
pins: 1 VDD (power) "Power-Supply Input, +2.7V to +5.5V", 2 VREF (in) "Reference Voltage Input", 3 VFB (in) "Feedback connection for the output amplifier", 4 VOUT (hiz) "Analog output voltage from DAC. The output amplifier has rail-to-rail operation.", 5 ~{SYNC} (in) "Level-triggered control input (active LOW). This is the frame synchronization signal for the input data. When S\Y\N\C\ goes LOW, it enables the input shift register and data is transferred in on the falling edges of the (See Datasheet)", 6 SCLK (in) "Serial Clock Input. Data can be transferred at rates up to 30MHz.", 7 DIN (in) "Serial Data Input. Data is clocked into the 24-bit input shift register on the falling edge of the serial clock input.", 8 GND (power) "Ground reference point for all circuitry on the part."

## DAC7513E/250
designator U?
Low-Power Rail-to-Rail Output 12-Bit Serial Input DAC, -40 to 105 degC, 8-pin SOP (DGK8), Green (RoHS & no Sb/Br); Manufacturer: Texas Instruments; PartNumber: DAC7513E/250; DAC Channels: 1; INL(Max)(+/-LSB): 8; Interface: Serial SPI; Resolution(Bits): 12; Settling Time(us): 10; SubFamily: Precision DAC (=<10MSPS); DatasheetVersion: SBAS157A; PackageVersion: 4073329/E, 05/2006; PackageReference: DGK8; PackageDescription: 8-Pin Thin Small Outline, Body 3 x 3 mm, Pitch 0.65 mm; Supplier 1: Digi-Key; Supplier Part Number 1: DAC7513ETR-ND; Supplier 2: Digi-Key; Supplier Part Number 2: DAC7513ECT-ND; Supplier 3: Digi-Key; Supplier Part Number 3: DAC7513EDKR-ND; Supplier 4: Newark; Supplier Part Number 4: 74K3714; Supplier 5: Mouser; Supplier Part Number 5: 595-DAC7513E/250; DNL(Max)(+/-LSB): 1; Eco-Plan: Green (RoHS & no Sb/Br); Mounting Technology: Surface Mount; Code_JEDEC: MO-187; ComponentLink1Description: Manufacturer URL; ComponentLink1URL: http://www.ti.com/; ComponentLink2Description: Datasheet; ComponentLink2URL: http://www.ti.com/general/docs/lit/getliterature.tsp?genericPartNumber=DAC7513&fileType=pdf; ComponentLink3Description: Package Specification; ComponentLink3URL: http://www.ti.com/litv/pdf/mpds028d
footprint TI-DGK8_N (SOP, 8-Leads, Body 3x3mm, Pitch 0.65mm, IPC Medium Density)
footprint TI-DGK8_L (SOP, 8-Leads, Body 3x3mm, Pitch 0.65mm, IPC High Density)
footprint TI-DGK8_M (SOP, 8-Leads, Body 3x3mm, Pitch 0.65mm, IPC Low Density)
pins: 1 VDD (power) "Power-Supply Input, +2.7V to +5.5V", 2 VREF (in) "Reference Voltage Input", 3 VFB (in) "Feedback connection for the output amplifier", 4 VOUT (hiz) "Analog output voltage from DAC. The output amplifier has rail-to-rail operation.", 5 ~{SYNC} (in) "Level-triggered control input (active LOW). This is the frame synchronization signal for the input data. When S\Y\N\C\ goes LOW, it enables the input shift register and data is transferred in on the falling edges of the (See Datasheet)", 6 SCLK (in) "Serial Clock Input. Data can be transferred at rates up to 30MHz.", 7 DIN (in) "Serial Data Input. Data is clocked into the 24-bit input shift register on the falling edge of the serial clock input.", 8 GND (power) "Ground reference point for all circuitry on the part."

## DAC7513E/250G4
designator U?
Low-Power Rail-to-Rail Output 12-Bit Serial Input DAC, -40 to 105 degC, 8-pin SOP (DGK8), Green (RoHS & no Sb/Br); Manufacturer: Texas Instruments; PartNumber: DAC7513E/250G4; DAC Channels: 1; INL(Max)(+/-LSB): 8; Interface: Serial SPI; Resolution(Bits): 12; Settling Time(us): 10; SubFamily: Precision DAC (=<10MSPS); DatasheetVersion: SBAS157A; PackageVersion: 4073329/E, 05/2006; PackageReference: DGK8; PackageDescription: 8-Pin Thin Small Outline, Body 3 x 3 mm, Pitch 0.65 mm; Supplier 1: Digi-Key; Supplier Part Number 1: DAC7513E/250G4-ND; Supplier 2: Farnell; Supplier Part Number 2: 1206853; Supplier 3: Newark; Supplier Part Number 3: 96K8417; Supplier 4: Newark; Supplier Part Number 4: 24K4540; Supplier 5: Mouser; Supplier Part Number 5: 595-DAC7513E/250G4; DNL(Max)(+/-LSB): 1; Eco-Plan: Green (RoHS & no Sb/Br); Mounting Technology: Surface Mount; Code_JEDEC: MO-187; ComponentLink1Description: Manufacturer URL; ComponentLink1URL: http://www.ti.com/; ComponentLink2Description: Datasheet; ComponentLink2URL: http://www.ti.com/general/docs/lit/getliterature.tsp?genericPartNumber=DAC7513&fileType=pdf; ComponentLink3Description: Package Specification; ComponentLink3URL: http://www.ti.com/litv/pdf/mpds028d
footprint TI-DGK8_N (SOP, 8-Leads, Body 3x3mm, Pitch 0.65mm, IPC Medium Density)
footprint TI-DGK8_L (SOP, 8-Leads, Body 3x3mm, Pitch 0.65mm, IPC High Density)
footprint TI-DGK8_M (SOP, 8-Leads, Body 3x3mm, Pitch 0.65mm, IPC Low Density)
pins: 1 VDD (power) "Power-Supply Input, +2.7V to +5.5V", 2 VREF (in) "Reference Voltage Input", 3 VFB (in) "Feedback connection for the output amplifier", 4 VOUT (hiz) "Analog output voltage from DAC. The output amplifier has rail-to-rail operation.", 5 ~{SYNC} (in) "Level-triggered control input (active LOW). This is the frame synchronization signal for the input data. When S\Y\N\C\ goes LOW, it enables the input shift register and data is transferred in on the falling edges of the (See Datasheet)", 6 SCLK (in) "Serial Clock Input. Data can be transferred at rates up to 30MHz.", 7 DIN (in) "Serial Data Input. Data is clocked into the 24-bit input shift register on the falling edge of the serial clock input.", 8 GND (power) "Ground reference point for all circuitry on the part."

## DAC7513N/3K
designator U?
Low-Power Rail-to-Rail Output 12-Bit Serial Input DAC, -40 to 105 degC, 8-pin SOP (DCN8), Green (RoHS & no Sb/Br); Manufacturer: Texas Instruments; PartNumber: DAC7513N/3K; DAC Channels: 1; INL(Max)(+/-LSB): 8; Interface: Serial SPI; Resolution(Bits): 12; Settling Time(us): 10; SubFamily: Precision DAC (=<10MSPS); DatasheetVersion: SBAS157A; PackageVersion: 4202106/D, 11/2009; PackageReference: DCN8; PackageDescription: 8-Pin Plastic Small Outline, Body 1.6 x 2.9 mm, Pitch 0.65 mm; Supplier 1: Digi-Key; Supplier Part Number 1: 296-26045-2-ND; Supplier 2: Digi-Key; Supplier Part Number 2: 296-26045-1-ND; Supplier 3: Digi-Key; Supplier Part Number 3: 296-26045-6-ND; Supplier 4: Newark; Supplier Part Number 4: 74C9156; Supplier 5: Mouser; Supplier Part Number 5: 595-DAC7513N/3K; DNL(Max)(+/-LSB): 1; Eco-Plan: Green (RoHS & no Sb/Br); Mounting Technology: Surface Mount; Code_JEDEC: MO-178; ComponentLink1Description: Manufacturer URL; ComponentLink1URL: http://www.ti.com/; ComponentLink2Description: Datasheet; ComponentLink2URL: http://www.ti.com/general/docs/lit/getliterature.tsp?genericPartNumber=DAC7513&fileType=pdf; ComponentLink3Description: Package Specification; ComponentLink3URL: http://www.ti.com/lit/ml/mpds099c/mpds099c.pdf
footprint TI-DCN8_N (SOP, 8-Leads, Body 2.9x1.6mm, Pitch 0.65mm, IPC Medium Density)
footprint TI-DCN8_L (SOP, 8-Leads, Body 2.9x1.6mm, Pitch 0.65mm, IPC High Density)
footprint TI-DCN8_M (SOP, 8-Leads, Body 2.9x1.6mm, Pitch 0.65mm, IPC Low Density)
pins: 1 VOUT (hiz) "Analog output voltage from DAC. The output amplifier has rail-to-rail operation.", 2 VFB (in) "Feedback connection for the output amplifier.", 3 VREF (in) "Reference Voltage Input.", 4 VDD (power) "Power Supply Input, +2.7V to +5.5V.", 5 GND (power) "Ground reference point for all circuitry on the part.", 6 DIN (in) "Serial Data Input. Data is clocked into the 16-bit input shift register on the falling edge of the serial clock input.", 7 SCLK (in) "Serial Clock Input. Data can be transferred at rates up to 30MHz.", 8 ~{SYNC} (in) "Level triggered control input (active LOW), this is the frame sychronization signal for the input data. When S\Y\N\C\goes LOW, it enables the input shift register and data is transferred in on the falling edges of the (See Datasheet)"

## DAC7513N/3KG4
designator U?
Low-Power Rail-to-Rail Output 12-Bit Serial Input DAC, -40 to 105 degC, 8-pin SOP (DCN8), Green (RoHS & no Sb/Br); Manufacturer: Texas Instruments; PartNumber: DAC7513N/3KG4; DAC Channels: 1; INL(Max)(+/-LSB): 8; Interface: Serial SPI; Resolution(Bits): 12; Settling Time(us): 10; SubFamily: Precision DAC (=<10MSPS); DatasheetVersion: SBAS157A; PackageVersion: 4202106/D, 11/2009; PackageReference: DCN8; PackageDescription: 8-Pin Plastic Small Outline, Body 1.6 x 2.9 mm, Pitch 0.65 mm; Supplier 1: Digi-Key; Supplier Part Number 1: DAC7513N/3KG4-ND; Supplier 2: Mouser; Supplier Part Number 2: 595-DAC7513N/3KG4; DNL(Max)(+/-LSB): 1; Eco-Plan: Green (RoHS & no Sb/Br); Mounting Technology: Surface Mount; Code_JEDEC: MO-178; ComponentLink1Description: Manufacturer URL; ComponentLink1URL: http://www.ti.com/; ComponentLink2Description: Datasheet; ComponentLink2URL: http://www.ti.com/general/docs/lit/getliterature.tsp?genericPartNumber=DAC7513&fileType=pdf; ComponentLink3Description: Package Specification; ComponentLink3URL: http://www.ti.com/lit/ml/mpds099c/mpds099c.pdf
footprint TI-DCN8_N (SOP, 8-Leads, Body 2.9x1.6mm, Pitch 0.65mm, IPC Medium Density)
footprint TI-DCN8_L (SOP, 8-Leads, Body 2.9x1.6mm, Pitch 0.65mm, IPC High Density)
footprint TI-DCN8_M (SOP, 8-Leads, Body 2.9x1.6mm, Pitch 0.65mm, IPC Low Density)
pins: 1 VOUT (hiz) "Analog output voltage from DAC. The output amplifier has rail-to-rail operation.", 2 VFB (in) "Feedback connection for the output amplifier.", 3 VREF (in) "Reference Voltage Input.", 4 VDD (power) "Power Supply Input, +2.7V to +5.5V.", 5 GND (power) "Ground reference point for all circuitry on the part.", 6 DIN (in) "Serial Data Input. Data is clocked into the 16-bit input shift register on the falling edge of the serial clock input.", 7 SCLK (in) "Serial Clock Input. Data can be transferred at rates up to 30MHz.", 8 ~{SYNC} (in) "Level triggered control input (active LOW), this is the frame sychronization signal for the input data. When S\Y\N\C\goes LOW, it enables the input shift register and data is transferred in on the falling edges of the (See Datasheet)"

## DAC7513N/250
designator U?
Low-Power Rail-to-Rail Output 12-Bit Serial Input DAC, -40 to 105 degC, 8-pin SOP (DCN8), Green (RoHS & no Sb/Br); Manufacturer: Texas Instruments; PartNumber: DAC7513N/250; DAC Channels: 1; INL(Max)(+/-LSB): 8; Interface: Serial SPI; Resolution(Bits): 12; Settling Time(us): 10; SubFamily: Precision DAC (=<10MSPS); DatasheetVersion: SBAS157A; PackageVersion: 4202106/D, 11/2009; PackageReference: DCN8; PackageDescription: 8-Pin Plastic Small Outline, Body 1.6 x 2.9 mm, Pitch 0.65 mm; Supplier 1: Digi-Key; Supplier Part Number 1: DAC7513NTR-ND; Supplier 2: Digi-Key; Supplier Part Number 2: DAC7513NCT-ND; Supplier 3: Digi-Key; Supplier Part Number 3: DAC7513NDKR-ND; Supplier 4: Farnell; Supplier Part Number 4: 4808587; Supplier 5: Newark; Supplier Part Number 5: 35C1624; Supplier 6: Mouser; Supplier Part Number 6: 595-DAC7513N/250; DNL(Max)(+/-LSB): 1; Eco-Plan: Green (RoHS & no Sb/Br); Mounting Technology: Surface Mount; Code_JEDEC: MO-178; ComponentLink1Description: Manufacturer URL; ComponentLink1URL: http://www.ti.com/; ComponentLink2Description: Datasheet; ComponentLink2URL: http://www.ti.com/general/docs/lit/getliterature.tsp?genericPartNumber=DAC7513&fileType=pdf; ComponentLink3Description: Package Specification; ComponentLink3URL: http://www.ti.com/lit/ml/mpds099c/mpds099c.pdf
footprint TI-DCN8_N (SOP, 8-Leads, Body 2.9x1.6mm, Pitch 0.65mm, IPC Medium Density)
footprint TI-DCN8_L (SOP, 8-Leads, Body 2.9x1.6mm, Pitch 0.65mm, IPC High Density)
footprint TI-DCN8_M (SOP, 8-Leads, Body 2.9x1.6mm, Pitch 0.65mm, IPC Low Density)
pins: 1 VOUT (hiz) "Analog output voltage from DAC. The output amplifier has rail-to-rail operation.", 2 VFB (in) "Feedback connection for the output amplifier.", 3 VREF (in) "Reference Voltage Input.", 4 VDD (power) "Power Supply Input, +2.7V to +5.5V.", 5 GND (power) "Ground reference point for all circuitry on the part.", 6 DIN (in) "Serial Data Input. Data is clocked into the 16-bit input shift register on the falling edge of the serial clock input.", 7 SCLK (in) "Serial Clock Input. Data can be transferred at rates up to 30MHz.", 8 ~{SYNC} (in) "Level triggered control input (active LOW), this is the frame sychronization signal for the input data. When S\Y\N\C\goes LOW, it enables the input shift register and data is transferred in on the falling edges of the (See Datasheet)"

## DAC7513N/250G4
designator U?
Low-Power Rail-to-Rail Output 12-Bit Serial Input DAC, -40 to 105 degC, 8-pin SOP (DCN8), Green (RoHS & no Sb/Br); Manufacturer: Texas Instruments; PartNumber: DAC7513N/250G4; DAC Channels: 1; INL(Max)(+/-LSB): 8; Interface: Serial SPI; Resolution(Bits): 12; Settling Time(us): 10; SubFamily: Precision DAC (=<10MSPS); DatasheetVersion: SBAS157A; PackageVersion: 4202106/D, 11/2009; PackageReference: DCN8; PackageDescription: 8-Pin Plastic Small Outline, Body 1.6 x 2.9 mm, Pitch 0.65 mm; Supplier 1: Digi-Key; Supplier Part Number 1: DAC7513N/250G4-ND; Supplier 2: Farnell; Supplier Part Number 2: 9324160; Supplier 3: Newark; Supplier Part Number 3: 38K0743; Supplier 4: Newark; Supplier Part Number 4: 71J3580; Supplier 5: Mouser; Supplier Part Number 5: 595-DAC7513N/250G4; DNL(Max)(+/-LSB): 1; Eco-Plan: Green (RoHS & no Sb/Br); Mounting Technology: Surface Mount; Code_JEDEC: MO-178; ComponentLink1Description: Manufacturer URL; ComponentLink1URL: http://www.ti.com/; ComponentLink2Description: Datasheet; ComponentLink2URL: http://www.ti.com/general/docs/lit/getliterature.tsp?genericPartNumber=DAC7513&fileType=pdf; ComponentLink3Description: Package Specification; ComponentLink3URL: http://www.ti.com/lit/ml/mpds099c/mpds099c.pdf
footprint TI-DCN8_N (SOP, 8-Leads, Body 2.9x1.6mm, Pitch 0.65mm, IPC Medium Density)
footprint TI-DCN8_L (SOP, 8-Leads, Body 2.9x1.6mm, Pitch 0.65mm, IPC High Density)
footprint TI-DCN8_M (SOP, 8-Leads, Body 2.9x1.6mm, Pitch 0.65mm, IPC Low Density)
pins: 1 VOUT (hiz) "Analog output voltage from DAC. The output amplifier has rail-to-rail operation.", 2 VFB (in) "Feedback connection for the output amplifier.", 3 VREF (in) "Reference Voltage Input.", 4 VDD (power) "Power Supply Input, +2.7V to +5.5V.", 5 GND (power) "Ground reference point for all circuitry on the part.", 6 DIN (in) "Serial Data Input. Data is clocked into the 16-bit input shift register on the falling edge of the serial clock input.", 7 SCLK (in) "Serial Clock Input. Data can be transferred at rates up to 30MHz.", 8 ~{SYNC} (in) "Level triggered control input (active LOW), this is the frame sychronization signal for the input data. When S\Y\N\C\goes LOW, it enables the input shift register and data is transferred in on the falling edges of the (See Datasheet)"